# Altium footprint library XC6806A42011G.PcbLib: 1 footprints
Each footprint in its own frame and in the unit in brackets; x right, y up, seen from the top. Pads: shape width x height; smd on the part's side, far side on the other; paste and mask are expansions set on the pad; w line width, h text height; cw(c..) or ccw(c..) is an arc to the next point about the centre after c.
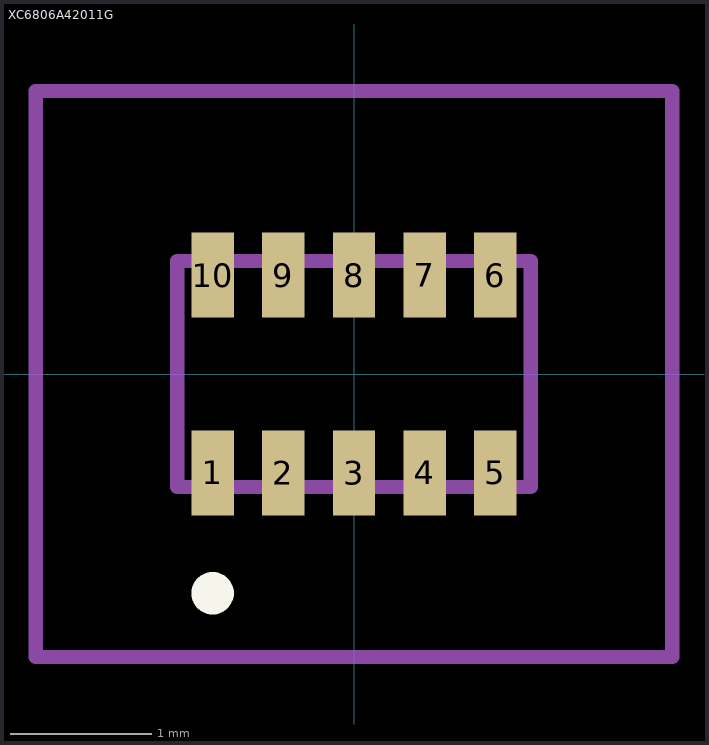
[diagram p0: the footprint, top view; thin cyan lines are the x and y axes]

## XC6806A42011G [mm]
pads (10):
  rect 0.3x0.6 smd: 1(-1,-0.7) 2(-0.5,-0.7) 3(0,-0.7) 4(0.5,-0.7) 5(1,-0.7) 6(1,0.7) 7(0.5,0.7) 8(0,0.7) 9(-0.5,0.7) 10(-1,0.7)
Top Overlay:
  lines w0.2: -1,-1.6 cw(c-1,-1.55) -1,-1.5 ; -1,-1.6 -1,-1.6 ; -1,-1.6 ccw(c-1,-1.55) -1,-1.5 ; -1,-1.6 cw(c-1,-1.55) -1,-1.5 ; -1,-1.5 -1,-1.5 ; -1,-1.5 -1,-1.5
Mechanical 15:
  lines w0.1: -1.25,-0.8 1.25,-0.8 1.25,0.8 -1.25,0.8 -1.25,-0.8
Mechanical 20:
  lines w0.1: -2.25,-2 2.25,-2 ; -2.25,-2 -2.25,2 ; -2.25,-2 2.25,-2 ; -2.25,-2 -2.25,2 ; -2.25,2 2.25,2 ; -2.25,2 2.25,2 ; 2.25,-2 2.25,2 ; 2.25,-2 2.25,2